# Altium footprint library Fuse.PcbLib: 2 footprints
Each footprint in its own frame and in the unit in brackets; x right, y up, seen from the top. Pads: shape width x height; smd on the part's side, far side on the other; paste and mask are expansions set on the pad; w line width, h text height; cw(c..) or ccw(c..) is an arc to the next point about the centre after c.
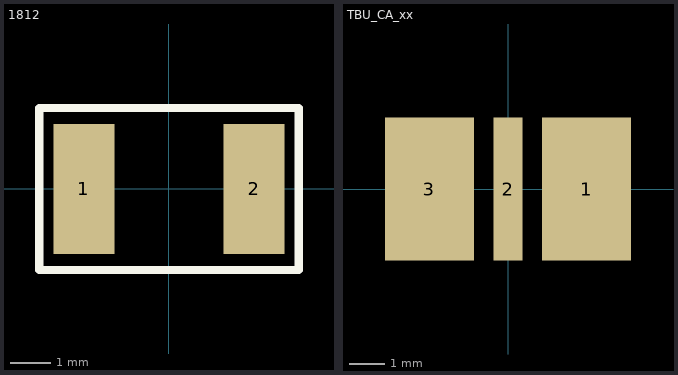
[diagram p0: the footprints below, top view; thin cyan lines are the x and y axes]

## 1812 [mm]
pads (2):
  rect 1.5x3.2 smd: 1(-2.1,0) 2(2.1,0)
Top Overlay:
  lines w0.2: -3.2,-2 3.2,-2 3.2,2 -3.2,2 -3.2,-2
3D body "User Library-Fuse 1812.STEP": height 1.03, standoff 0, extent -2.365,-1.74 2.37,1.74

## TBU_CA_xx [mm]
pads (3):
  rect 2.5x4 smd: 1(2.2,0) 3(-2.2,0)
  rect 0.8x4 smd: 2(0,0)
3D body "TBU_CA_xx.STEP": height 1.02, standoff -0.03, extent -3.25,-2 3.25,2